# EAGLE library part LM2592H_SWITCHING_REGULATOR (library Taylor)
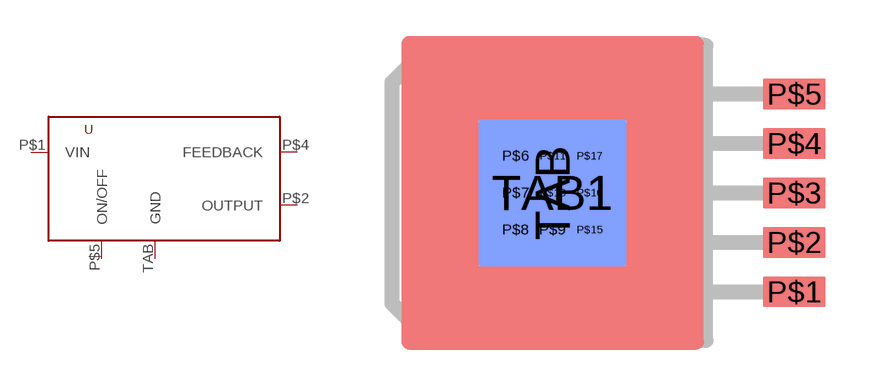
[diagram p13: symbol with the pads of LM2592HV_SWITCHING_REGULTOR_ADJ; footprint LM2592HV_SWITCHING_REGULTOR_ADJ]

Designator prefix -

## LM2592H_SWITCHING_REGULATOR  [LM2592HV_SWITCHING_REGULTOR_ADJ]
P$1  VIN
P$2  OUTPUT
P$3  GND1
P$4  FEEDBACK
P$5  ON/OFF
P$6  GND2
P$7  GND3
P$8  GND4
P$9  GND5
P$10  GND6
P$11  GND7
P$15  GND8
P$16  GND9
P$17  GND10
TAB  GND
TAB1  GND11

## Footprint LM2592HV_SWITCHING_REGULTOR_ADJ (pad centres in mm)
smd 2.159 x 1.067: P$1 6.223,-3.404; P$2 6.223,-1.702; P$3 6.223,0; P$4 6.223,1.702; P$5 6.223,3.404
drill 0.305 square: P$6 -3.365,1.27; P$7 -3.365,0; P$8 -3.365,-1.27; P$9 -2.095,-1.27; P$10 -2.095,0; P$11 -2.095,1.27; P$15 -0.826,-1.27; P$16 -0.826,0; P$17 -0.826,1.27
smd 10.414 x 10.795: TAB -2.095,0
smd 5.08 x 5.08 bottom: TAB1 -2.095,0